# Altium schematic symbol library 09732642801.SchLib: 1 symbol
Pins are listed as number, name and electrical type; pins without a type are passive.

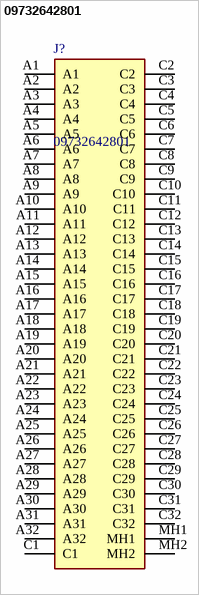
[diagram p0: symbol 09732642801]

## 09732642801
designator J?
DIN R female angled, 64pin, PL1 (rows a,c loaded); Manufacturer_Name: HARTING; Geometry.Height: 10.6mm; Mouser Part Number: 617-09732642801; Mouser Price/Stock: https://www.mouser.co.uk/ProductDetail/HARTING/09732642801?qs=j4IGAxHIGvxkKinQeu0YQg%3D%3D; Manufacturer_Part_Number: 09732642801; Datasheet Link: https://b2b.harting.com/files/download/PRD/PDF_DS/PDF_DS_09732200201.pdf
footprint 09732642801
pins: A1, A2, A3, A4, A5, A6, A7, A8, A9, A10, A11, A12, A13, A14, A15, A16, A17, A18, A19, A20, A21, A22, A23, A24, A25, A26, A27, A28, A29, A30, A31, A32, C1, C2, C3, C4, C5, C6, C7, C8, C9, C10, C11, C12, C13, C14, C15, C16, C17, C18, C19, C20, C21, C22, C23, C24, C25, C26, C27, C28, C29, C30, C31, C32, MH1, MH2